# EAGLE library part RA-CAT16-F4 (library MakBit)
CAT16-F4
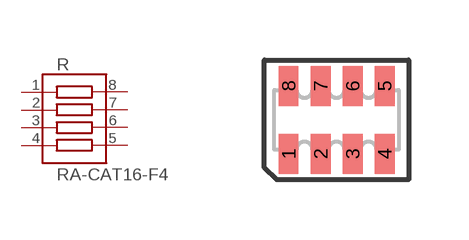
[diagram p14: symbol with the pads of RA-1206-X4; footprint RA-1206-X4]

Designator prefix R

## RA-CAT16-F4  [RA-1206-X4]
1  P.1  pas
2  P.2  pas
3  P.3  pas
4  P.4  pas
5  P.5  pas
6  P.6  pas
7  P.7  pas
8  P.8  pas

## Footprint RA-1206-X4 (pad centres in mm)
BOURNS Chip Resistor Array CAT16 - Concave Terminations CAY16 - Convex Terminations
smd 0.5 x 1: 1 -1.2,-0.85; 2 -0.4,-0.85; 3 0.4,-0.85; 4 1.2,-0.85; 5 1.2,0.85; 6 0.4,0.85; 7 -0.4,0.85; 8 -1.2,0.85